# EAGLE library part TPS61220 (library Regulator)
LOW INPUT VOLTAGE STEP-UP CONVERTER IN 6 PIN SC-70 PACKAGE, Adjustable
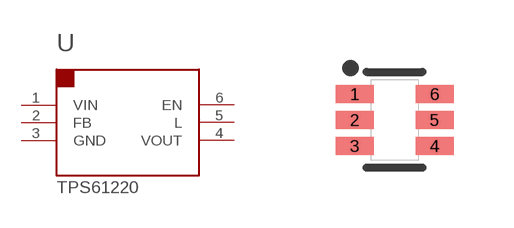
[diagram p6: symbol with the pads of SC-70-6; footprint SC-70-6]

Designator prefix U

## TPS61220DCK  [SC-70-6]
1  VIN  pwr
2  FB  pas
3  GND  pwr
4  VOUT  pwr
5  L  in
6  EN  in

## Footprint SC-70-6 (pad centres in mm)
SC-70-6 Changelog: 10/30/13 - Changes to pads to tighten up area. Update tPlace for consistency. CN 04/16/13 - Rotate package. Change tPlace and text for better look (mm grid). CN
smd 0.95 x 0.45: 1 -1,0.65; 2 -1,0; 3 -1,-0.65; 4 1,-0.65; 5 1,0; 6 1,0.65